# Altium schematic symbol library DC SUPPLY.SchLib: 5 symbols
Pins are listed as number, name and electrical type; pins without a type are passive.

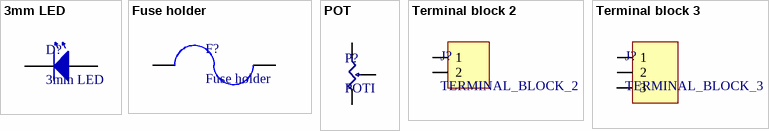
[diagram p0: symbols 3mm LED to Terminal block 3]

## 3mm LED
designator D?
footprint LED 3 mm
pins: 1, 2

## Fuse holder
designator F?
glas fuse holder
footprint FUSE HOLDER (Small glas fuse holder)
pins: 1, 2

## POT
designator P?, comment POTI
PIHER poti vertical pcb mounting
footprint POT (PIHER poti vertical)
pins: 1, 2, 3

## Terminal block 2
designator J?, comment TERMINAL_BLOCK_2
2 pins terminal block
footprint TERMINAL_BLOCK_2 (Terminal block 2 pin)
pins: 1, 2

## Terminal block 3
designator J?, comment TERMINAL_BLOCK_3
3 pins terminal block
footprint TERMINAL_BLOCK_3 (Terminal block 3 pina)
pins: 1, 2, 3